# Altium schematic symbol library TI TPS76301.SchLib: 1 symbol
Pins are listed as number, name and electrical type; pins without a type are passive.

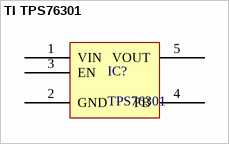
[diagram p0: symbol TI TPS76301]

## TI TPS76301
designator IC?, comment TPS76301
150mA Low-Dropout Regulator
pins: 1 VIN "Desc1", 2 GND "Desc1", 3 EN "Desc1", 4 FB "Desc1", 5 VOUT "Desc1"